# EAGLE library part JCB0312S24 (library JCB0312S24)
Isolated Module DC DC Converter 1 Output 24V 125mA 9V - 18V Input Source: Datasheet <https://www.xppower.com/portals/0/pdfs/SF_JCB.pdf>
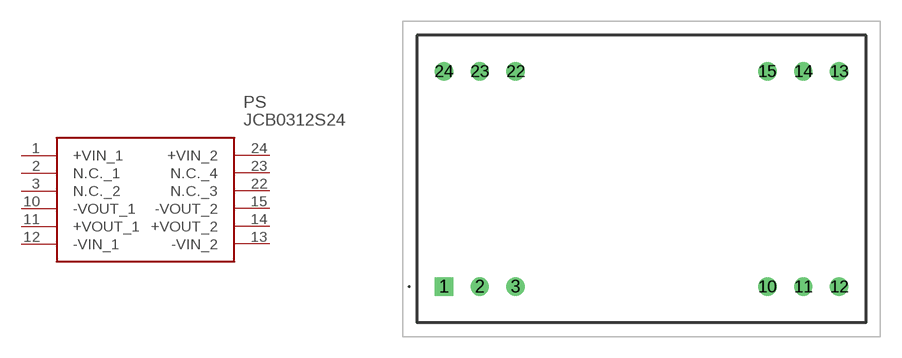
[diagram p0: symbol with the pads of JCB0312S24; footprint JCB0312S24]

Designator prefix PS

## JCB0312S24 (Description: Isolated Module DC DC Converter 1 Output 24V 125mA 9V - 18V Input; Height: 10.66mm; Manufacturer_Name: XP POWER; Manufacturer_Part_Number: JCB0312S24; Mouser_Part_Number: 209-JCB0312S24; Mouser_Price-Stock: https://www.mouser.co.uk/ProductDetail/XP-Power/JCB0312S24?qs=w%2Fv1CP2dgqougWRJ%2F3pg2Q%3D%3D)  [JCB0312S24]
1  +VIN_1
2  N.C._1
3  N.C._2
10  -VOUT_1
11  +VOUT_1
12  -VIN_1
13  -VIN_2
14  +VOUT_2
15  -VOUT_2
22  N.C._3
23  N.C._4
24  +VIN_2

## Footprint JCB0312S24 (pad centres in mm)
24-DIP Module, 14 Leads
drill 0.76 pad 1.303 square: 1 0,0
drill 0.76 pad 1.303: 2 2.54,0; 3 5.08,0; 10 22.86,0; 11 25.4,0; 12 27.94,0; 13 27.94,15.24; 14 25.4,15.24; 15 22.86,15.24; 22 5.08,15.24; 23 2.54,15.24; 24 0,15.24